# Altium schematic symbol library 691 254 410 0xx.SchLib: 2 symbols
Pins are listed as number, name and electrical type; pins without a type are passive.

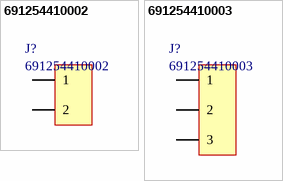
[diagram p0: symbols 691254410002 to 691254410003]

## 691254410002
designator J?
Horizontal Cable Entry with Rising Cage Clamp, Serie 2544 - 7.62mm; Manufacturer: Wurth Elektronik; ComponentLink1 Description: Manufacturer; ComponentLink2 Description: Datasheet; NoPins: 2; ComponentLink1 URL: http://www.we-online.com; ComponentLink2 URL: http://katalog.we-online.de/em/datasheet/6912544100xx.pdf; Created By: Baojun Chen; Created Date: 29.Aug.2015; PartNo: 691254410002
footprint 691254410002 (Serie 2544 - 7.62 mm _ 2 pins)
pins: 1, 2

## 691254410003
designator J?
Horizontal Cable Entry with Rising Cage Clamp, Serie 2544 - 7.62mm; Manufacturer: Wurth Elektronik; ComponentLink1 Description: Manufacturer; ComponentLink2 Description: Datasheet; NoPins: 3; ComponentLink1 URL: http://www.we-online.com; ComponentLink2 URL: http://katalog.we-online.de/em/datasheet/6912544100xx.pdf; Created By: Baojun Chen; Created Date: 29.Aug.2015; PartNo: 691254410003
footprint 691254410003 (Serie 2544 - 7.62 mm _ 3 pins)
pins: 1, 2, 3